# EAGLE library part ATMEL_JTAG (library 000-ece411)
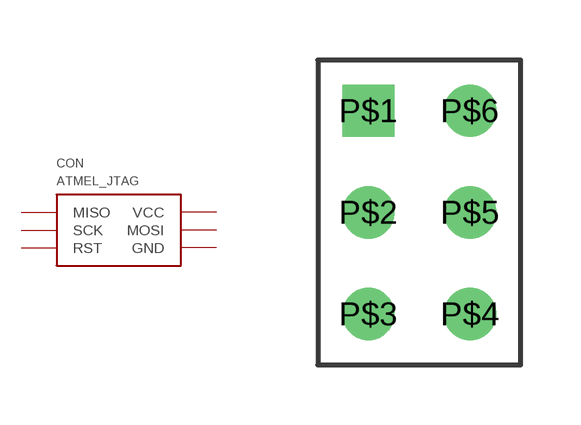
[diagram p1: symbol with the pads of 3X2-100MIL; footprint 3X2-100MIL]

Designator prefix CON

## ATMEL_JTAG  [3X2-100MIL]
P$1  MISO
P$2  SCK
P$3  RST
P$4  GND
P$5  MOSI
P$6  VCC

## Footprint 3X2-100MIL (pad centres in mm)
drill 0.8 square: P$1 0,0
drill 0.8 round: P$2 0,-2.54; P$3 0,-5.08; P$4 2.54,-5.08; P$5 2.54,-2.54; P$6 2.54,0